# EAGLE library part SL-62 (library con_slot)
Слот на 62 контакта.
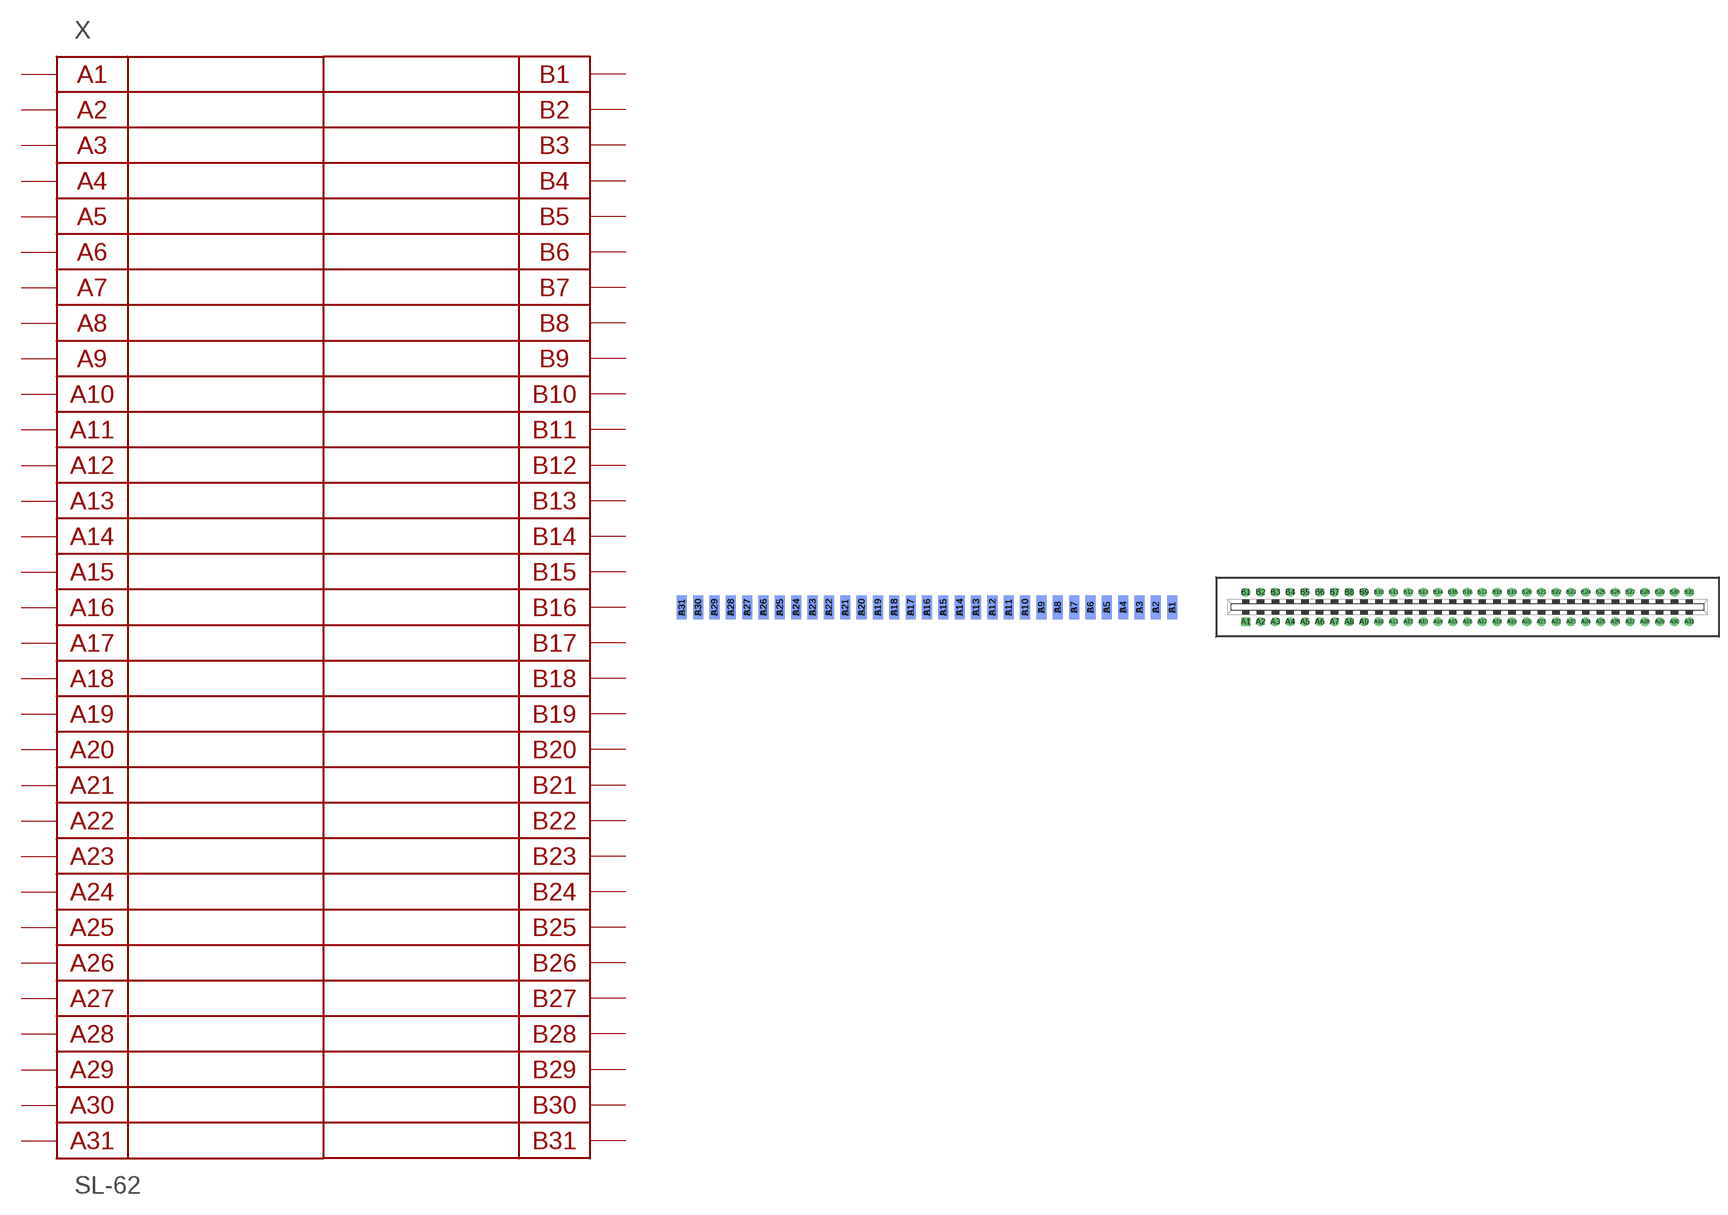
[diagram p1: symbol with the pads of CARD_SL62; footprints CARD_SL62, SL-62]

Designator prefix X

## SL-62CARD  [CARD_SL62]
A1  A1
A2  A2
A3  A3
A4  A4
A5  A5
A6  A6
A7  A7
A8  A8
A9  A9
A10  A10
A11  A11
A12  A12
A13  A13
A14  A14
A15  A15
A16  A16
A17  A17
A18  A18
A19  A19
A20  A20
A21  A21
A22  A22
A23  A23
A24  A24
A25  A25
A26  A26
A27  A27
A28  A28
A29  A29
A30  A30
A31  A31
B1  B1
B2  B2
B3  B3
B4  B4
B5  B5
B6  B6
B7  B7
B8  B8
B9  B9
B10  B10
B11  B11
B12  B12
B13  B13
B14  B14
B15  B15
B16  B16
B17  B17
B18  B18
B19  B19
B20  B20
B21  B21
B22  B22
B23  B23
B24  B24
B25  B25
B26  B26
B27  B27
B28  B28
B29  B29
B30  B30
B31  B31

## SL-62SLOT  [SL-62]
Pads as for CARD_SL62

## Footprint CARD_SL62 (pad centres in mm)
Краевой разъем. Сетка 0,1 мм. Контур края платы на слое Reference.
smd 1.524 x 3.683 bottom: A1 38.1,-4.699; A2 35.56,-4.699; A3 33.02,-4.699; A4 30.48,-4.699; A5 27.94,-4.699; A6 25.4,-4.699; A7 22.86,-4.699; A8 20.32,-4.699; A9 17.78,-4.699; A10 15.24,-4.699; A11 12.7,-4.699; A12 10.16,-4.699; A13 7.62,-4.699; A14 5.08,-4.699; A15 2.54,-4.699; A16 0,-4.699; A17 -2.54,-4.699; A18 -5.08,-4.699; A19 -7.62,-4.699; A20 -10.16,-4.699; A21 -12.7,-4.699; A22 -15.24,-4.699; A23 -17.78,-4.699; A24 -20.32,-4.699; A25 -22.86,-4.699; A26 -25.4,-4.699; A27 -27.94,-4.699; A28 -30.48,-4.699; A29 -33.02,-4.699; A30 -35.56,-4.699; A31 -38.1,-4.699
smd 1.524 x 3.683: B1 38.1,-4.699; B2 35.56,-4.699; B3 33.02,-4.699; B4 30.48,-4.699; B5 27.94,-4.699; B6 25.4,-4.699; B7 22.86,-4.699; B8 20.32,-4.699; B9 17.78,-4.699; B10 15.24,-4.699; B11 12.7,-4.699; B12 10.16,-4.699; B13 7.62,-4.699; B14 5.08,-4.699; B15 2.54,-4.699; B16 0,-4.699; B17 -2.54,-4.699; B18 -5.08,-4.699; B19 -7.62,-4.699; B20 -10.16,-4.699; B21 -12.7,-4.699; B22 -15.24,-4.699; B23 -17.78,-4.699; B24 -20.32,-4.699; B25 -22.86,-4.699; B26 -25.4,-4.699; B27 -27.94,-4.699; B28 -30.48,-4.699; B29 -33.02,-4.699; B30 -35.56,-4.699; B31 -38.1,-4.699

## Footprint SL-62 (pad centres in mm)
drill 1 pad 1.5 square: A1 -38.1,-2.54
drill 1 pad 1.5: A2 -35.56,-2.54; A3 -33.02,-2.54; A4 -30.48,-2.54; A5 -27.94,-2.54; A6 -25.4,-2.54; A7 -22.86,-2.54; A8 -20.32,-2.54; A9 -17.78,-2.54; A10 -15.24,-2.54; A11 -12.7,-2.54; A12 -10.16,-2.54; A13 -7.62,-2.54; A14 -5.08,-2.54; A15 -2.54,-2.54; A16 0,-2.54; A17 2.54,-2.54; A18 5.08,-2.54; A19 7.62,-2.54; A20 10.16,-2.54; A21 12.7,-2.54; A22 15.24,-2.54; A23 17.78,-2.54; A24 20.32,-2.54; A25 22.86,-2.54; A26 25.4,-2.54; A27 27.94,-2.54; A28 30.48,-2.54; A29 33.02,-2.54; A30 35.56,-2.54; A31 38.1,-2.54; B1 -38.1,2.54; B2 -35.56,2.54; B3 -33.02,2.54; B4 -30.48,2.54; B5 -27.94,2.54; B6 -25.4,2.54; B7 -22.86,2.54; B8 -20.32,2.54; B9 -17.78,2.54; B10 -15.24,2.54; B11 -12.7,2.54; B12 -10.16,2.54; B13 -7.62,2.54; B14 -5.08,2.54; B15 -2.54,2.54; B16 0,2.54; B17 2.54,2.54; B18 5.08,2.54; B19 7.62,2.54; B20 10.16,2.54; B21 12.7,2.54; B22 15.24,2.54; B23 17.78,2.54; B24 20.32,2.54; B25 22.86,2.54; B26 25.4,2.54; B27 27.94,2.54; B28 30.48,2.54; B29 33.02,2.54; B30 35.56,2.54; B31 38.1,2.54